# EAGLE library part SM06B-NSHSS-TB_LF__SN_ (library SamacSys_Parts)
JST NSH Series, 1mm Pitch 6 Way 1 Row Right Angle PCB Header, Solder Termination, 10A Source: Datasheet <http://www.jst-mfg.com/product/pdf/eng/eNSH.pdf>
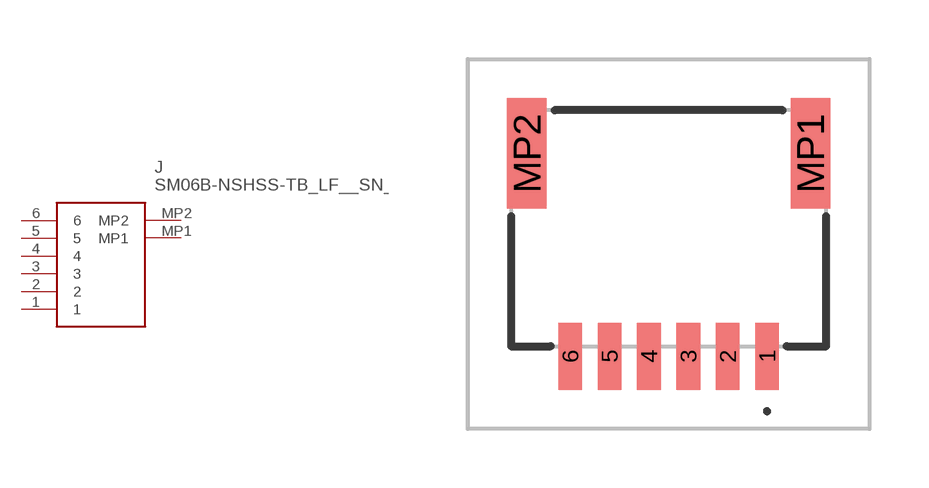
[diagram p40: symbol with the pads of SM06BNSHSSTBLFSN; footprint SM06BNSHSSTBLFSN]

Designator prefix J

## SM06B-NSHSS-TB_LF__SN_ (DESCRIPTION: JST NSH Series, 1mm Pitch 6 Way 1 Row Right Angle PCB Header, Solder Termination, 10A; HEIGHT: 4.4mm; MANUFACTURER_NAME: JST (JAPAN SOLDERLESS TERMINALS); MANUFACTURER_PART_NUMBER: SM06B-NSHSS-TB(LF)(SN); MOUSER_PART_NUMBER: 306-SM06BNSHSSTBLFSN; MOUSER_PRICE-STOCK: https://www.mouser.co.uk/ProductDetail/JST-Commercial/SM06B-NSHSS-TBLFSN?qs=QpmGXVUTftEq5EgkEukSHg%3D%3D)  [SM06BNSHSSTBLFSN]
1  1
2  2
3  3
4  4
5  5
6  6
MP1  MP1
MP2  MP2

## Footprint SM06BNSHSSTBLFSN (pad centres in mm)
SM06B-NSHSS-TB(LF)(SN)-3
smd 0.6 x 1.7: 1 2.5,-3.25; 2 1.5,-3.25; 3 0.5,-3.25; 4 -0.5,-3.25; 5 -1.5,-3.25; 6 -2.5,-3.25
smd 1 x 2.8: MP1 3.6,1.9; MP2 -3.6,1.9